# EAGLE library part ADS7828 (library burr-brown)
12-Bit, 8-Channel Sampling ANALOG-TO-DIGITAL CONVERTER with I2C? Interface Source: www.ti.com .. ADS7828.pdf
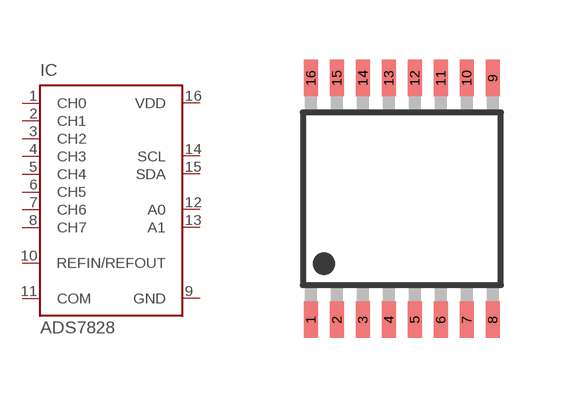
[diagram p161: symbol with the pads of TSSOP16-PW; footprint TSSOP16-PW]

Designator prefix IC

## ADS7828 (MANUFACTURER: TEXAS INSTRUMENTS; MPN: ADS7828E/250)  [TSSOP16-PW]
1  CH0  in
2  CH1  in
3  CH2  in
4  CH3  in
5  CH4  in
6  CH5  in
7  CH6  in
8  CH7  in
9  GND  pwr
10  REFIN/REFOUT  pas
11  COM  in
12  A0  in
13  A1  in
14  SCL  in
15  SDA
16  VDD  pwr

## Footprint TSSOP16-PW (pad centres in mm)
PLASTIC SMALL-OUTLINE PACKAGE PW (R-PDSO-G16) Source: www.ti.com .. ADS7828.pdf
smd 0.35 x 0.9: 1 -2.275,-3.025; 2 -1.625,-3.025; 3 -0.975,-3.025; 4 -0.325,-3.025; 5 0.325,-3.025; 6 0.975,-3.025; 7 1.625,-3.025; 8 2.275,-3.025; 9 2.275,3.025; 10 1.625,3.025; 11 0.975,3.025; 12 0.325,3.025; 13 -0.325,3.025; 14 -0.975,3.025; 15 -1.625,3.025; 16 -2.275,3.025